# Altium schematic symbol library TVS.SchLib: 1 symbol
Pins are listed as number, name and electrical type; pins without a type are passive.

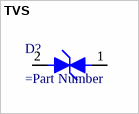
[diagram p0: symbol TVS]

## TVS
designator D?
=Description
footprint X1-DFN1006-2-DIODES-INC
pins: 1, 2